# EAGLE library part S25FL128SDPNFI001 (library circuit_tree)
IC
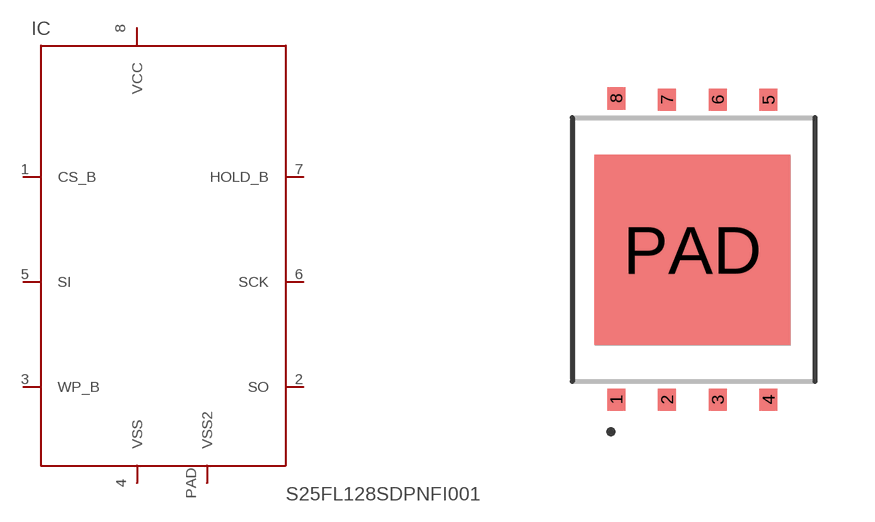
[diagram p7: symbol with the pads of WNG008; footprint WNG008]

Designator prefix IC

## S25FL128SDPNFI001  [WNG008]
1  CS_B  pas
2  SO  pas
3  WP_B  pas
4  VSS  pas
5  SI  pas
6  SCK  pas
7  HOLD_B  pas
8  VCC  pas
PAD  VSS2  pas

## Footprint WNG008 (pad centres in mm)
smd 0.45 x 0.55: 1 -1.27,0; 2 0,0; 3 1.27,0; 4 2.54,0; 5 2.54,7.5; 6 1.27,7.5; 7 0,7.5; 8 -1.27,7.53
smd 4.9 x 4.75: PAD 0.635,3.75